# EAGLE library part IM23GR-RELAY (library im)
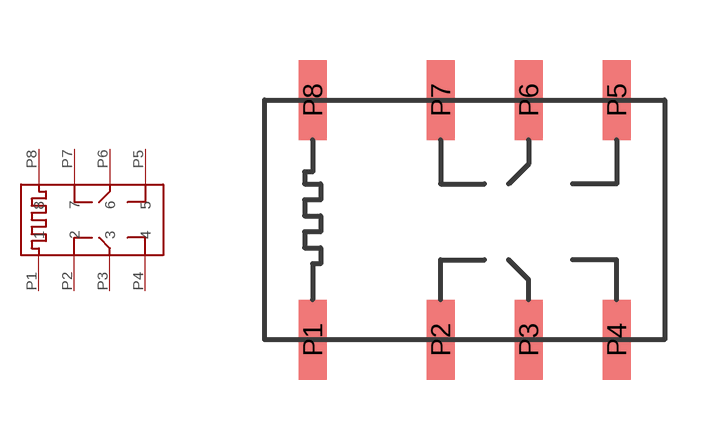
[diagram p5: symbol with the pads of IM23GR-RELAY; footprint IM23GR-RELAY]

Designator prefix -

## IM23GR-RELAY  [IM23GR-RELAY]
P1  1
P2  2
P3  3
P4  4
P5  5
P6  6
P7  7
P8  8

## Footprint IM23GR-RELAY (pad centres in mm)
smd 0.7 x 2: P1 -3.2,-3; P2 0,-3; P3 2.2,-3; P4 4.4,-3; P5 4.4,3; P6 2.2,3; P7 0,3; P8 -3.2,3